# Altium footprint library Connector_Coaxial.PcbLib: 37 footprints (part 2 of 3)
Each footprint in its own frame and in the unit in brackets; x right, y up, seen from the top. Pads: shape width x height; smd on the part's side, far side on the other; paste and mask are expansions set on the pad; w line width, h text height; cw(c..) or ccw(c..) is an arc to the next point about the centre after c.
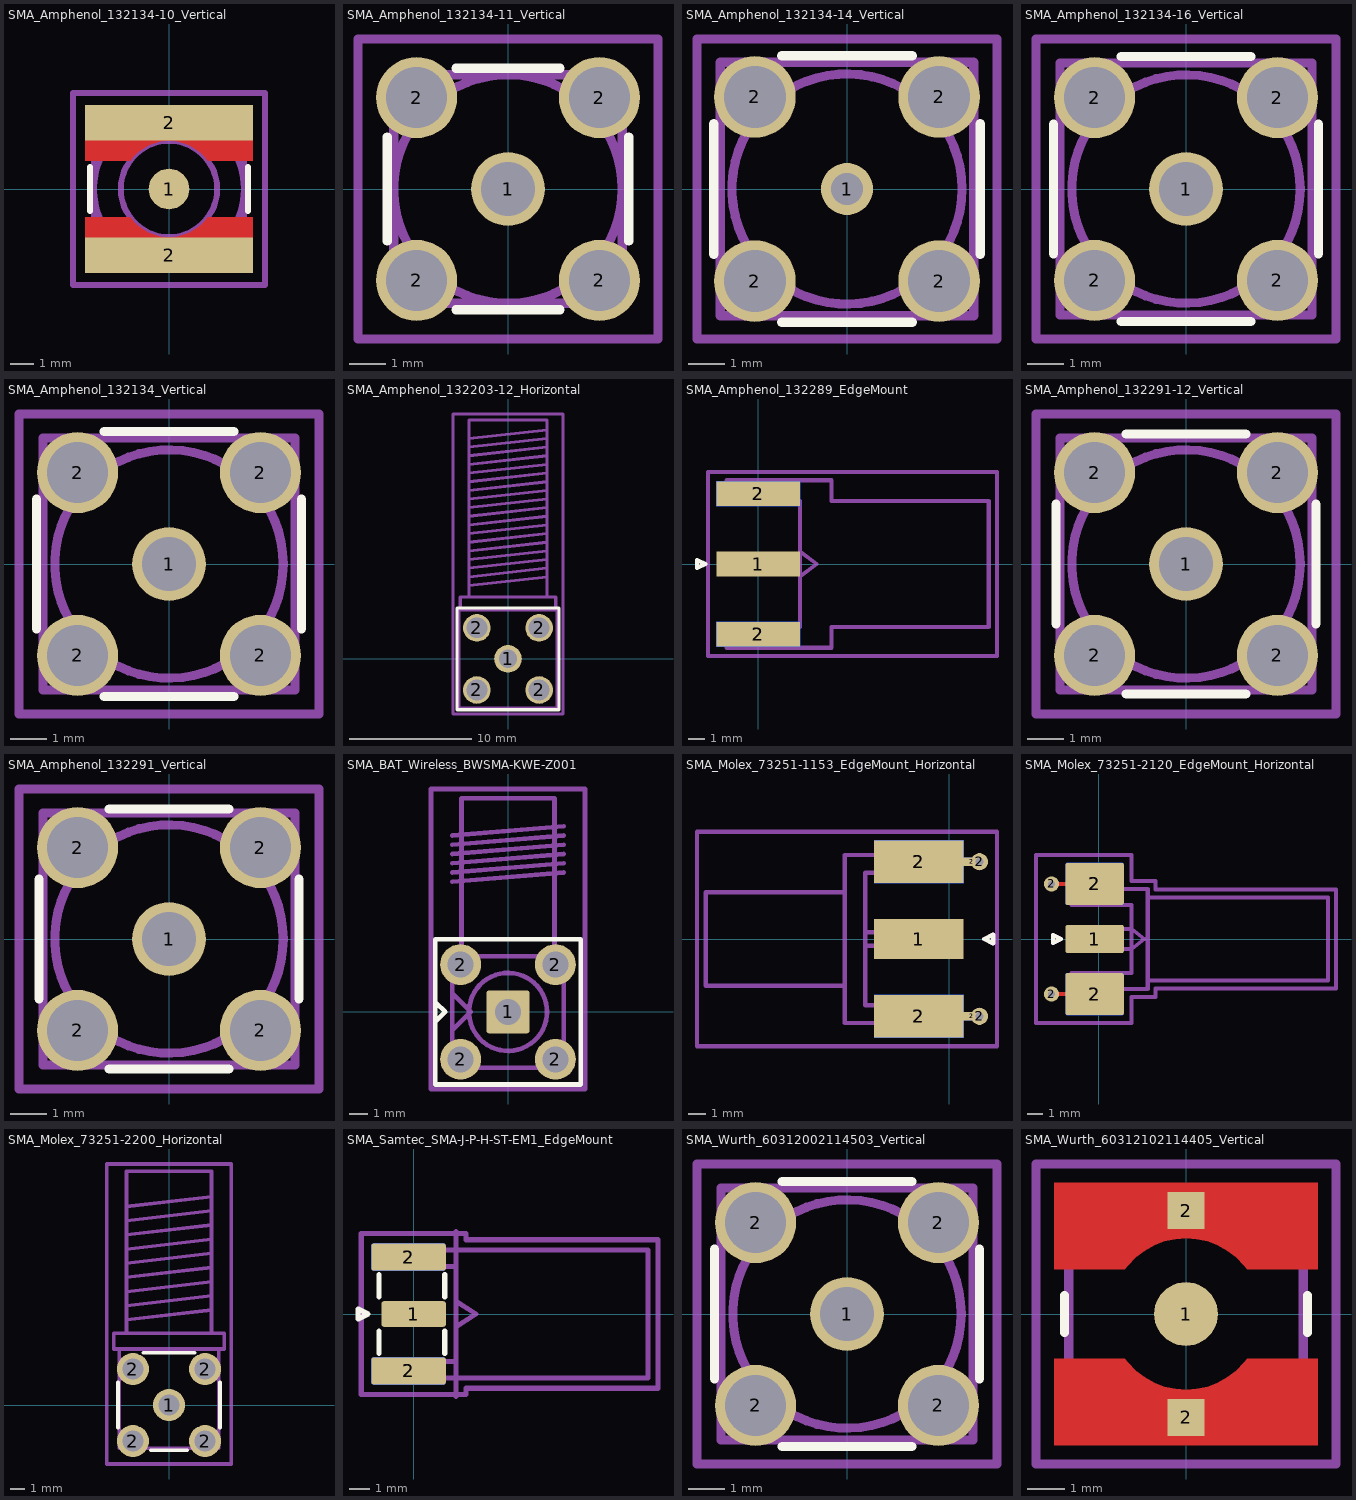
[diagram p1: the footprints below, top view; thin cyan lines are the x and y axes]

## SMA_Amphenol_132134-10_Vertical [mm]
pads (3):
  round 1.73 smd: 1(0,0)
  rect 7.11x1.51 smd: 2(0,-2.8) 2(0,2.8)
F.Cu:
  region: 3.555,-3.555 0,-3.555 0,-2.035 0.085,-2.035 0.28,-2.02 0.48,-1.98 0.675,-1.925 0.86,-1.85 1.035,-1.755 1.205,-1.645 1.36,-1.52 1.5,-1.38 1.645,-1.205 3.555,-1.205
  region: -1.5,-1.38 -1.36,-1.52 -1.205,-1.645 -1.035,-1.755 -0.86,-1.85 -0.675,-1.925 -0.48,-1.98 -0.28,-2.02 -0.085,-2.035 0,-2.035 0,-3.555 -3.555,-3.555 -3.555,-1.205 -1.645,-1.205
  region: 0,2.035 -0.085,2.035 -0.28,2.02 -0.48,1.98 -0.675,1.925 -0.86,1.85 -1.035,1.755 -1.205,1.645 -1.36,1.52 -1.5,1.38 -1.645,1.205 -3.555,1.205 -3.555,3.555 0,3.555
  region: 3.555,1.205 1.645,1.205 1.5,1.38 1.36,1.52 1.205,1.645 1.035,1.755 0.86,1.85 0.675,1.925 0.48,1.98 0.28,2.02 0.085,2.035 0,2.035 0,3.555 3.555,3.555
F.SilkS:
  lines w0.254: -3.355,-0.94 -3.355,0.94 ; 3.355,-0.94 3.355,0.94
F.Paste:
  region: 3.555,-3.555 0,-3.555 0,-2.035 0.085,-2.035 0.28,-2.02 0.48,-1.98 0.675,-1.925 0.86,-1.85 1.035,-1.755 1.205,-1.645 1.36,-1.52 1.5,-1.38 1.645,-1.205 3.555,-1.205
  region: -1.5,-1.38 -1.36,-1.52 -1.205,-1.645 -1.035,-1.755 -0.86,-1.85 -0.675,-1.925 -0.48,-1.98 -0.28,-2.02 -0.085,-2.035 0,-2.035 0,-3.555 -3.555,-3.555 -3.555,-1.205 -1.645,-1.205
  region: 0,2.035 -0.085,2.035 -0.28,2.02 -0.48,1.98 -0.675,1.925 -0.86,1.85 -1.035,1.755 -1.205,1.645 -1.36,1.52 -1.5,1.38 -1.645,1.205 -3.555,1.205 -3.555,3.555 0,3.555
  region: 3.555,1.205 1.645,1.205 1.5,1.38 1.36,1.52 1.205,1.645 1.035,1.755 0.86,1.85 0.675,1.925 0.48,1.98 0.28,2.02 0.085,2.035 0,2.035 0,3.555 3.555,3.555
F.Mask:
  region: 3.555,-3.555 0,-3.555 0,-2.035 0.085,-2.035 0.28,-2.02 0.48,-1.98 0.675,-1.925 0.86,-1.85 1.035,-1.755 1.205,-1.645 1.36,-1.52 1.5,-1.38 1.645,-1.205 3.555,-1.205
  region: -1.5,-1.38 -1.36,-1.52 -1.205,-1.645 -1.035,-1.755 -0.86,-1.85 -0.675,-1.925 -0.48,-1.98 -0.28,-2.02 -0.085,-2.035 0,-2.035 0,-3.555 -3.555,-3.555 -3.555,-1.205 -1.645,-1.205
  region: 0,2.035 -0.085,2.035 -0.28,2.02 -0.48,1.98 -0.675,1.925 -0.86,1.85 -1.035,1.755 -1.205,1.645 -1.36,1.52 -1.5,1.38 -1.645,1.205 -3.555,1.205 -3.555,3.555 0,3.555
  region: 3.555,1.205 1.645,1.205 1.5,1.38 1.36,1.52 1.205,1.645 1.035,1.755 0.86,1.85 0.675,1.925 0.48,1.98 0.28,2.02 0.085,2.035 0,2.035 0,3.555 3.555,3.555
Top Assembly:
  circle w0.254: c0,0 r3.175
  lines w0.254: -3.175,-3.175 3.175,-3.175 3.175,3.175 -3.175,3.175 -3.175,-3.175
  text "'.Designator'" at -4.047,-0.84 h1
Top Courtyard:
  lines w0.254: -4.06,-4.06 4.06,-4.06 4.06,4.06 -4.06,4.06 -4.06,-4.06
Top Designator:
  text ".Designator" at -7.622,-0.508 h1.52
Dwgs.User:
  circle w0.254: c0,0 r2.04

## SMA_Amphenol_132134-11_Vertical [mm]
pads (5):
  round 2.05 hole 1.5: 1(0,0)
  round 2.25 hole 1.7: 2(-2.54,-2.54) 2(-2.54,2.54) 2(2.54,-2.54) 2(2.54,2.54)
F.SilkS:
  lines w0.254: -3.355,-1.45 -3.355,1.45 ; -1.45,-3.355 1.45,-3.355 ; -1.45,3.355 1.45,3.355 ; 3.355,-1.45 3.355,1.45
Top Assembly:
  circle w0.254: c0,0 r3.175
  lines w0.254: -3.175,-3.175 3.175,-3.175 3.175,3.175 -3.175,3.175 -3.175,-3.175
  text "'.Designator'" at -4.047,-0.84 h1
Top Courtyard:
  lines w0.254: -4.17,-4.17 4.17,-4.17 4.17,4.17 -4.17,4.17 -4.17,-4.17
Top Designator:
  text ".Designator" at -7.618,-0.508 h1.52

## SMA_Amphenol_132134-14_Vertical [mm]
pads (5):
  round 1.44 hole 0.89: 1(0,0)
  round 2.25 hole 1.7: 2(-2.54,-2.54) 2(-2.54,2.54) 2(2.54,-2.54) 2(2.54,2.54)
F.SilkS:
  lines w0.254: -3.68,-1.8 -3.68,1.8 ; -1.8,-3.68 1.8,-3.68 ; -1.8,3.68 1.8,3.68 ; 3.68,-1.8 3.68,1.8
Top Assembly:
  circle w0.254: c0,0 r3.175
  lines w0.254: -3.5,-3.5 3.5,-3.5 3.5,3.5 -3.5,3.5 -3.5,-3.5
  text "'.Designator'" at -4.047,-0.84 h1
Top Courtyard:
  lines w0.254: -4.14,-4.14 4.14,-4.14 4.14,4.14 -4.14,4.14 -4.14,-4.14
Top Designator:
  text ".Designator" at -7.618,-0.508 h1.52

## SMA_Amphenol_132134-16_Vertical [mm]
pads (5):
  round 2.05 hole 1.5: 1(0,0)
  round 2.25 hole 1.7: 2(-2.54,-2.54) 2(-2.54,2.54) 2(2.54,-2.54) 2(2.54,2.54)
F.SilkS:
  lines w0.254: -3.68,-1.8 -3.68,1.8 ; -1.8,-3.68 1.8,-3.68 ; -1.8,3.68 1.8,3.68 ; 3.68,-1.8 3.68,1.8
Top Assembly:
  circle w0.254: c0,0 r3.175
  lines w0.254: -3.5,-3.5 3.5,-3.5 3.5,3.5 -3.5,3.5 -3.5,-3.5
  text "'.Designator'" at -4.047,-0.84 h1
Top Courtyard:
  lines w0.254: -4.17,-4.17 4.17,-4.17 4.17,4.17 -4.17,4.17 -4.17,-4.17
Top Designator:
  text ".Designator" at -7.618,-0.508 h1.52

## SMA_Amphenol_132134_Vertical [mm]
pads (5):
  round 2.05 hole 1.5: 1(0,0)
  round 2.25 hole 1.7: 2(-2.54,-2.54) 2(-2.54,2.54) 2(2.54,-2.54) 2(2.54,2.54)
F.SilkS:
  lines w0.254: -3.68,-1.8 -3.68,1.8 ; -1.8,-3.68 1.8,-3.68 ; -1.8,3.68 1.8,3.68 ; 3.68,-1.8 3.68,1.8
Top Assembly:
  circle w0.254: c0,0 r3.175
  lines w0.254: -3.5,-3.5 3.5,-3.5 3.5,3.5 -3.5,3.5 -3.5,-3.5
  text "'.Designator'" at -4.047,-0.84 h1
Top Courtyard:
  lines w0.254: -4.17,-4.17 4.17,-4.17 4.17,4.17 -4.17,4.17 -4.17,-4.17
Top Designator:
  text ".Designator" at -7.618,-0.508 h1.52

## SMA_Amphenol_132203-12_Horizontal [mm]
pads (5):
  round 2.25 hole 1.5: 1(0,0)
  round 2.25 hole 1.7: 2(-2.54,-2.54) 2(-2.54,2.54) 2(2.54,-2.54) 2(2.54,2.54)
F.SilkS:
  lines w0.254: -4.15,-4.15 4.15,-4.15 4.15,4.15 -4.15,4.15 -4.15,-4.15
Top Assembly:
  lines w0.254: -3.9,4 -3.9,5.07 3.9,5.07 3.9,4 ; -3.175,5.07 -3.175,19.5 3.175,19.5 3.175,5.07 ; -3.175,5.998 3.175,6.704 ; -3.175,6.704 3.175,7.41 ; -3.175,7.41 3.175,8.116 ; -3.175,8.116 3.175,8.822 ; -3.175,8.822 3.175,9.528 ; -3.175,9.528 3.175,10.234 ; -3.175,10.234 3.175,10.94 ; -3.175,10.94 3.175,11.646 ; -3.175,11.646 3.175,12.352 ; -3.175,12.352 3.175,13.058 ; -3.175,13.058 3.175,13.764 ; -3.175,13.764 3.175,14.47 ; -3.175,14.47 3.175,15.176 ; -3.175,15.176 3.175,15.882 ; -3.175,15.882 3.175,16.588 ; -3.175,16.588 3.175,17.294 ; -3.175,17.294 3.175,18 ; -3.175,18 3.175,18.706 ; -4,-4 4,-4 4,4 -4,4 -4,-4
  text "'.Designator'" at -4.047,-0.84 h1
Top Courtyard:
  lines w0.254: -4.5,-4.5 4.5,-4.5 4.5,20 -4.5,20 -4.5,-4.5
Top Designator:
  text ".Designator" at -7.618,7.242 h1.52

## SMA_Amphenol_132289_EdgeMount [mm]
pads (5):
  rect 5.08x1.5 smd: 1(0,0) 2(0,-4.25) 2(0,4.25)
  rect 5.08x1.5 smd far side: 2(0,-4.25) 2(0,4.25)
F.SilkS:
  lines w0.254: -3.71,-0.25 -3.21,0 -3.71,0.25 -3.71,-0.25
Top Assembly:
  lines w0.254: 2.54,-0.75 3.54,0 2.54,0.75 ; -1.91,-5.08 4.445,-5.08 4.445,-3.81 13.97,-3.81 13.97,3.81 4.445,3.81 4.445,5.08 -1.91,5.08 -1.91,3.81 2.54,3.81 2.54,-3.81 -1.91,-3.81 -1.91,-5.08
  text "'.Designator'" at 5.63,-4.047 h1
Top Courtyard:
  lines w0.254: -3.04,-5.58 14.47,-5.58 14.47,5.58 -3.04,5.58 -3.04,-5.58
Bottom Courtyard:
  lines w0.254: -3.04,-5.58 14.47,-5.58 14.47,5.58 -3.04,5.58 -3.04,-5.58
Top Designator:
  text ".Designator" at -2.238,-0.508 h1.52

## SMA_Amphenol_132291-12_Vertical [mm]
pads (5):
  round 2.05 hole 1.5: 1(0,0)
  round 2.25 hole 1.7: 2(-2.54,-2.54) 2(-2.54,2.54) 2(2.54,-2.54) 2(2.54,2.54)
F.SilkS:
  lines w0.254: -3.61,-1.66 -3.61,1.66 ; -1.66,-3.61 1.66,-3.61 ; -1.66,3.61 1.66,3.61 ; 3.61,-1.66 3.61,1.66
Top Assembly:
  circle w0.254: c0,0 r3.175
  lines w0.254: -3.5,-3.5 3.5,-3.5 3.5,3.5 -3.5,3.5 -3.5,-3.5
  text "'.Designator'" at -4.047,-0.84 h1
Top Courtyard:
  lines w0.254: -4.17,-4.17 4.17,-4.17 4.17,4.17 -4.17,4.17 -4.17,-4.17
Top Designator:
  text ".Designator" at -7.618,-0.508 h1.52

## SMA_Amphenol_132291_Vertical [mm]
pads (5):
  round 2.05 hole 1.5: 1(0,0)
  round 2.25 hole 1.7: 2(-2.54,-2.54) 2(-2.54,2.54) 2(2.54,-2.54) 2(2.54,2.54)
F.SilkS:
  lines w0.254: -3.61,-1.66 -3.61,1.66 ; -1.66,-3.61 1.66,-3.61 ; -1.66,3.61 1.66,3.61 ; 3.61,-1.66 3.61,1.66
Top Assembly:
  circle w0.254: c0,0 r3.175
  lines w0.254: -3.5,-3.5 3.5,-3.5 3.5,3.5 -3.5,3.5 -3.5,-3.5
  text "'.Designator'" at -4.047,-0.84 h1
Top Courtyard:
  lines w0.254: -4.17,-4.17 4.17,-4.17 4.17,4.17 -4.17,4.17 -4.17,-4.17
Top Designator:
  text ".Designator" at -7.618,-0.508 h1.52

## SMA_BAT_Wireless_BWSMA-KWE-Z001 [mm]
pads (5):
  rrect9% 2.3x2.3 hole 1.4: 1(0,0)
  round 2.2 hole 1.4: 2(-2.55,-2.55) 2(-2.55,2.55) 2(2.55,-2.55) 2(2.55,2.55)
F.SilkS:
  lines w0.254: -3.885,-0.5 -3.385,0 -3.885,0.5 ; -3.91,-3.91 3.91,-3.91 3.91,3.91 -3.91,3.91 -3.91,-3.91
Top Assembly:
  lines w0.254: -3,-1 -2,0 -3,1 ; -3,7 3,7.5 ; -3,7.5 3,8 ; -3,8 3,8.5 ; -3,8.5 3,9 ; -3,9 3,9.5 ; -3,9.5 3,10 ; -2.5,3 -2.5,11.5 2.5,11.5 2.5,3 ; -3,-3 3,-3 3,3 -3,3 -3,-3
  text "'.Designator'" at -4.047,-0.84 h1
Top Courtyard:
  lines w0.254: -4.15,-4.15 4.15,-4.15 4.15,12 -4.15,12 -4.15,-4.15
Top Designator:
  text ".Designator" at -7.618,3.417 h1.52
Cmts.User:
  circle w0.254: c0,0 r2.1

## SMA_Molex_73251-1153_EdgeMount_Horizontal [mm]
pads (11):
  rect 5.08x2.29 smd: 1(-1.72,0)
  rect 5.08x2.42 smd: 2(-1.72,-4.38) 2(-1.72,4.38)
  rect 5.08x2.42 smd far side: 2(-1.72,-4.38) 2(-1.72,4.38)
  rect 0.95x0.46 smd: 2(1.27,-4.38) 2(1.27,4.38)
  rect 0.95x0.46 smd far side: 2(1.27,-4.38) 2(1.27,4.38)
  round 0.97 hole 0.46: 2(1.72,-4.38) 2(1.72,4.38)
F.SilkS:
  lines w0.254: 2,0 2.5,-0.25 2.5,0.25 2,0
Top Assembly:
  lines w0.254: -5.91,-2.65 -13.79,-2.65 -13.79,2.65 -5.91,2.65 ; -4.76,-0.38 0.49,-0.38 0.49,0.38 -4.76,0.38 ; -5.91,-4.76 0.49,-4.76 0.49,-3.75 -4.76,-3.75 -4.76,3.75 0.49,3.75 0.49,4.76 -5.91,4.76 -5.91,-4.76 ; 2,0 2.5,0.25 2.5,-0.25 2,0
  text "'.Designator'" at -5.547,-7.84 h1
Top Courtyard:
  lines w0.254: -14.29,-6.09 2.71,-6.09 2.71,6.09 -14.29,6.09 -14.29,-6.09
Bottom Courtyard:
  lines w0.254: -14.29,-6.09 2.71,-6.09 2.71,6.09 -14.29,6.09 -14.29,-6.09
Top Designator:
  text ".Designator" at -13.408,-1.561 h1.52

## SMA_Molex_73251-2120_EdgeMount_Horizontal [mm]
pads (7):
  rrect14% 3.69x1.78 smd: 1(-0.25,0)
  round 0.97 hole 0.46: 2(-2.985,-3.492) 2(-2.985,3.492)
  rrect9% 3.69x2.665 smd: 2(-0.25,-3.492) 2(-0.25,3.492)
  rrect9% 3.69x2.665 smd far side: 2(-0.25,-3.492) 2(-0.25,3.492)
F.Cu:
  lines w0.254: -2.985,-3.492 -0.25,-3.492 ; -2.985,3.492 -0.25,3.492
B.Cu:
  lines w0.254: -2.985,-3.492 -0.25,-3.492 ; -2.985,3.492 -0.25,3.492
F.SilkS:
  lines w0.254: -2.9,-0.25 -2.4,0 -2.9,0.25 -2.9,-0.25
Top Assembly:
  lines w0.254: 3.115,-2.64 14.545,-2.64 14.545,2.64 3.115,2.64 ; -2.9,-0.25 -2.4,0 -2.9,0.25 -2.9,-0.25 ; -1.715,-3.175 3.115,-3.175 3.115,3.175 -1.715,3.175 -1.715,2.155 2.095,2.155 2.095,-2.155 -1.715,-2.155 -1.715,-3.175 ; -1.715,-0.635 2.095,-0.635 2.9,0 2.095,0.635 -1.715,0.635 -1.715,-0.635
  text "'.Designator'" at 5.048,-0.84 h1
Top Courtyard:
  lines w0.254: -3.97,-5.33 2.1,-5.33 2.1,-3.68 3.62,-3.68 3.62,-3.14 15.05,-3.14 15.05,3.14 3.62,3.14 3.62,3.67 2.1,3.67 2.1,5.33 -3.97,5.33 -3.97,-5.33
Bottom Courtyard:
  lines w0.254: -3.97,-5.33 2.1,-5.33 2.1,-3.68 3.62,-3.68 3.62,-3.14 15.05,-3.14 15.05,3.14 3.62,3.14 3.62,3.67 2.1,3.67 2.1,5.33 -3.97,5.33 -3.97,-5.33
Top Designator:
  text ".Designator" at -2.078,-0.508 h1.52
Dwgs.User:
  text "PCB Edge" at 2.568,-1.728 h0.5

## SMA_Molex_73251-2200_Horizontal [mm]
pads (5):
  round 2.25 hole 1.5: 1(0,0) 2(-2.54,-2.54) 2(-2.54,2.54) 2(2.54,-2.54) 2(2.54,2.54)
F.SilkS:
  lines w0.254: -3.6,-1.6 -3.6,1.6 ; -1.8,3.68 1.8,3.68 ; -1.3,-3.2 1.3,-3.2 ; 3.6,-1.6 3.6,1.6
Top Assembly:
  lines w0.254: -3,5.07 -3,16.5 3,16.5 3,5.07 ; -3,6 3,6.7 ; -3,7 3,7.7 ; -3,8 3,8.7 ; -3,9 3,9.7 ; -3,10 3,10.7 ; -3,11 3,11.7 ; -3,12 3,12.7 ; -3,13 3,13.7 ; -3,14 3,14.7 ; -3.9,3.95 3.9,3.95 3.9,5.07 -3.9,5.07 -3.9,3.95 ; -3.5,-3.05 3.5,-3.05 3.5,3.95 -3.5,3.95 -3.5,-3.05
  text "'.Designator'" at -4.047,-0.84 h1
Top Courtyard:
  lines w0.254: -4.4,-4.16 4.4,-4.16 4.4,17 -4.4,17 -4.4,-4.16
Top Designator:
  text ".Designator" at -7.618,5.912 h1.52

## SMA_Samtec_SMA-J-P-H-ST-EM1_EdgeMount [mm]
pads (5):
  rrect20% 3.2x1.27 smd: 1(0,0)
  rrect19% 3.7x1.35 smd: 2(-0.25,-2.825) 2(-0.25,2.825)
  rrect19% 3.7x1.35 smd far side: 2(-0.25,-2.825) 2(-0.25,2.825)
F.SilkS:
  lines w0.254: -1.71,-1.95 -1.71,-0.84 ; -1.71,0.84 -1.71,1.95 ; 1.54,-1.95 1.54,-0.84 ; 1.54,0.84 1.54,1.95 ; -2.76,-0.25 -2.26,0 -2.76,0.25 -2.76,-0.25
Top Assembly:
  lines w0.254: 2.1,-0.64 3.1,0 2.1,0.64 ; 11.62,-3.175 -1.71,-3.175 -1.71,-2.365 2.1,-2.365 2.1,2.365 -1.71,2.365 -1.71,3.175 11.62,3.175 ; 11.62,-3.165 11.62,3.165
  text "'.Designator'" at -4.047,-0.84 h1
Top Courtyard:
  lines w0.254: -2.6,-4 2.6,-4 2.6,-3.68 12.12,-3.68 12.12,3.68 2.6,3.68 2.6,4 -2.6,4 -2.6,-4
Bottom Courtyard:
  lines w0.254: -2.6,-4 2.6,-4 2.6,-3.68 12.12,-3.68 12.12,3.68 2.6,3.68 2.6,4 -2.6,4 -2.6,-4
Top Designator:
  text ".Designator" at -6.004,-1.346 h1.52
Dwgs.User:
  lines w0.254: 2.1,-4.1 2.1,4.1
  text "PCB Edge" at 3.033,-1.748 h0.5
Cmts.User:
  text "Board Thickness: 1.57mm" at -8.87,-5.754 h1

## SMA_Wurth_60312002114503_Vertical [mm]
pads (5):
  round 2.05 hole 1.5: 1(0,0)
  round 2.25 hole 1.7: 2(-2.54,-2.54) 2(-2.54,2.54) 2(2.54,-2.54) 2(2.54,2.54)
F.SilkS:
  lines w0.254: -3.68,-1.8 -3.68,1.8 ; -1.8,-3.68 1.8,-3.68 ; -1.8,3.68 1.8,3.68 ; 3.68,-1.8 3.68,1.8
Top Assembly:
  circle w0.254: c0,0 r3.175
  lines w0.254: -3.5,-3.5 3.5,-3.5 3.5,3.5 -3.5,3.5 -3.5,-3.5
  text "'.Designator'" at -4.047,-0.84 h1
Top Courtyard:
  lines w0.254: -4.17,-4.17 4.17,-4.17 4.17,4.17 -4.17,4.17 -4.17,-4.17
Top Designator:
  text ".Designator" at -7.618,-0.508 h1.52

## SMA_Wurth_60312102114405_Vertical [mm]
pads (3):
  round 1.73 smd: 1(0,0)
  rect 1x1 smd: 2(0,-2.8) 2(0,2.8)
F.Cu:
  region: 3.56,-3.555 -3.56,-3.555 -3.56,-1.205 -1.652,-1.205 -1.563,-1.323 -1.356,-1.535 -1.12,-1.714 -0.861,-1.858 -0.584,-1.963 -0.295,-2.026 0,-2.048 0.295,-2.026 0.584,-1.963 0.861,-1.858 1.12,-1.714 1.356,-1.535 1.563,-1.323 1.652,-1.205 3.56,-1.205
  region: 3.56,1.205 1.652,1.205 1.563,1.323 1.356,1.535 1.12,1.714 0.861,1.858 0.584,1.963 0.295,2.026 0,2.048 -0.295,2.026 -0.584,1.963 -0.861,1.858 -1.12,1.714 -1.356,1.535 -1.563,1.323 -1.652,1.205 -3.56,1.205 -3.56,3.555 3.56,3.555
F.SilkS:
  lines w0.254: -3.29,-0.5 -3.29,0.5 ; 3.29,-0.5 3.29,0.5
F.Paste:
  region: 3.56,1.205 1.652,1.205 1.556,1.332 1.332,1.556 1.205,1.652 1.205,3.555 3.56,3.555
  region: 3.56,-3.555 1.205,-3.555 1.205,-1.652 1.332,-1.556 1.556,-1.332 1.652,-1.205 3.56,-1.205
  region: -1.205,1.652 -1.332,1.556 -1.556,1.332 -1.652,1.205 -3.56,1.205 -3.56,3.555 -1.205,3.555
  region: -1.556,-1.332 -1.332,-1.556 -1.205,-1.652 -1.205,-3.555 -3.56,-3.555 -3.56,-1.205 -1.652,-1.205
F.Mask:
  region: 3.56,-3.555 -3.56,-3.555 -3.56,-1.205 -1.652,-1.205 -1.563,-1.323 -1.356,-1.535 -1.12,-1.714 -0.861,-1.858 -0.584,-1.963 -0.295,-2.026 0,-2.048 0.295,-2.026 0.584,-1.963 0.861,-1.858 1.12,-1.714 1.356,-1.535 1.563,-1.323 1.652,-1.205 3.56,-1.205
  region: 3.56,1.205 1.652,1.205 1.563,1.323 1.356,1.535 1.12,1.714 0.861,1.858 0.584,1.963 0.295,2.026 0,2.048 -0.295,2.026 -0.584,1.963 -0.861,1.858 -1.12,1.714 -1.356,1.535 -1.563,1.323 -1.652,1.205 -3.56,1.205 -3.56,3.555 3.56,3.555
Top Assembly:
  lines w0.254: -3.175,-3.175 -3.175,3.175 3.175,3.175 3.175,-3.175 -3.175,-3.175
  text "'.Designator'" at -4.047,-0.84 h1
Top Courtyard:
  lines w0.254: -4.06,-4.06 -4.06,4.06 4.06,4.06 4.06,-4.06 -4.06,-4.06
Top Designator:
  text ".Designator" at -7.622,-0.508 h1.52